# Altium footprint library ClimaSens-Lib.PcbLib: 9 footprints
Each footprint in its own frame and in the unit in brackets; x right, y up, seen from the top. Pads: shape width x height; smd on the part's side, far side on the other; paste and mask are expansions set on the pad; w line width, h text height; cw(c..) or ccw(c..) is an arc to the next point about the centre after c.
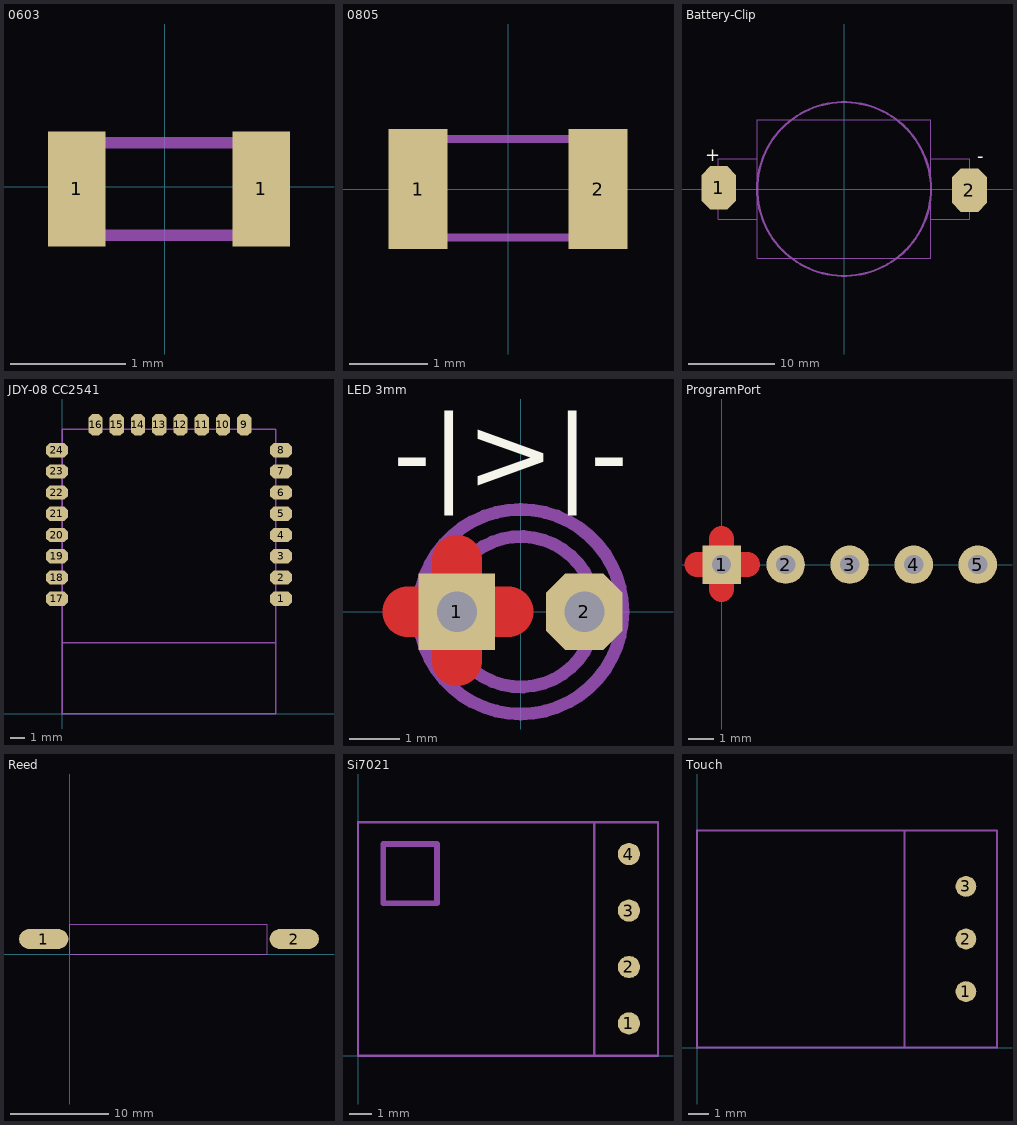
[diagram p0: the footprints below, top view; thin cyan lines are the x and y axes]

## 0603 [mm]
pads (2):
  rect 0.5x1 smd: 1(-0.762,-0.019) 1(0.838,-0.019)
Mechanical 1:
  lines w0.1: -0.762,-0.419 0.838,-0.419 0.838,0.381 -0.762,0.381 -0.762,-0.419

## 0805 [mil]
pads (2):
  rect 29.53x60 smd: 1(-45,0) 2(45,0)
Mechanical 1:
  lines w3.94: -40,-24.21 -40,25 38.74,25 38.74,-24.21 -40,-24.21
3D body: height 39.37, standoff 0, extent -40,-24.21 38.74,25

## Battery-Clip [mil]
height 196.85
pads (2):
  oct 157.48x196.85 smd: 1(-570,5) 2(570,-5)
Top Overlay:
  text "+" at -630,125 h60
  text "-" at 635,165 h60
Mechanical 1:
  circle w10: c0,0 r395.03
  lines w3.94: -395.91,-137.8 -570.87,-137.8 -570.87,137.8 -395.91,137.8 ; 395.91,-137.8 570.87,-137.8 570.87,137.8 395.91,137.8 ; -393.7,-314.96 -393.7,314.96 393.7,314.96 393.7,-314.96 -393.7,-314.96
3D body: height 177.17, standoff 59.06, extent -393.69,-393.69 393.71,393.71
3D body: height 216.54, standoff 0, extent -570.87,-314.96 570.87,314.96

## JDY-08 CC2541 [mil]
height 78.74
pads (24):
  oct 60x39.37 smd: 1(605,318.82) 2(605,377.56) 3(605,436.3) 4(605,495.04) 5(605,553.78) 6(605,612.52) 7(605,671.26) 8(605,730) 17(-15,318.82) 18(-15,377.56) 19(-15,436.3) 20(-15,495.04) 21(-15,553.78) 22(-15,612.52) 23(-15,671.26) 24(-15,730)
  oct 39.37x60 smd: 9(502.91,800) 10(444.17,800) 11(385.43,800) 12(326.69,800) 13(267.95,800) 14(209.21,800) 15(150.47,800) 16(91.73,800)
Mechanical 1:
  lines w3.94: 0,196.85 590.55,196.85 ; 0,0 0,787.4 590.55,787.4 590.55,0 0,0
3D body: height 10, standoff 0, extent 0,195 0,195
3D body: height 39.37, standoff 0, extent 0,0 590.55,196.85
3D body: height 78.74, standoff 0, extent 0,196.85 590.55,787.4

## LED 3mm [mil]
height 236.22
pads (2):
  rect 60x60 hole 31.5: 1(-50,0)
  oct 60x60 hole 31.5: 2(50,0)
Top Layer:
  lines w39.37: -88.43,0 -9.69,0 ; -50,-38.43 -50,40.31
Top Overlay:
  text "-|>|-" at -100,95 h60
Top Solder:
  lines w39.37: -88.43,0 -9.69,0 ; -50,-38.43 -50,40.31
Mechanical 1:
  circle w10: c0,0 r80.16
  lines w10: 58.95,0.01 ccw(c0,0) 58.95,0
3D body: height 39.37, standoff 0, extent -78.73,-78.73 78.75,78.75
3D body: height 216.54, standoff 0, extent -58.58,-58.93 59.06,58.95

## ProgramPort [mil]
pads (5):
  rect 60x60 hole 30: 1(0,0)
  round 60 hole 30: 2(100,0) 3(200,0) 4(300,0) 5(400,0)
Top Layer:
  lines w39.37: -38.43,0 40.31,0 ; 0,-38.43 0,40.31
Top Solder:
  lines w39.37: -38.43,0 40.31,0 ; 0,-38.43 0,40.31

## Reed [mil]
height 118.11
pads (2):
  oval 196.85x78.74 smd: 1(-105,60) 2(895,60)
Mechanical 1:
  lines w3.94: 0,0 787.4,0 ; 0,0 0,118.11 787.4,118.11 787.4,0 ; 0,0 787.4,0 ; 0,0 787.4,0
3D body: height 78.27, standoff -39.37, extent 0,1.06 787.4,118.94

## Si7021 [mm]
height 3
pads (4):
  round 1 smd: 1(12.192,1.45) 2(12.192,3.99) 3(12.192,6.53) 4(12.192,9.07)
Mechanical 1:
  lines w0.1: 10.627,0.041 10.627,10.5 ; 0,0 0,10.5 13.5,10.5 13.5,0 0,0
  lines w0.254: 1.143,6.858 1.143,9.525 3.556,9.525 3.556,6.858 1.143,6.858
3D body: height 2.5, standoff 0, extent 1.143,6.858 3.556,9.525
3D body: height 1.5, standoff 0, extent 0,0 13.5,10.5

## Touch [mm]
height 3
pads (3):
  round 1 smd: 1(13,2.71) 2(13,5.25) 3(13,7.79)
Mechanical 1:
  lines w0.1: 10.033,0 10.033,10.5 ; 0,0 14.5,0 14.5,10.5 0,10.5 0,0
3D body: height 1.5, standoff 0, extent 0,0 14.5,10.5
3D body: height 3, standoff 0, extent 0,0 10.033,10.5